# Altium integrated library Cypress USB Controllers.IntLib: 169 symbols (part 8 of 16)
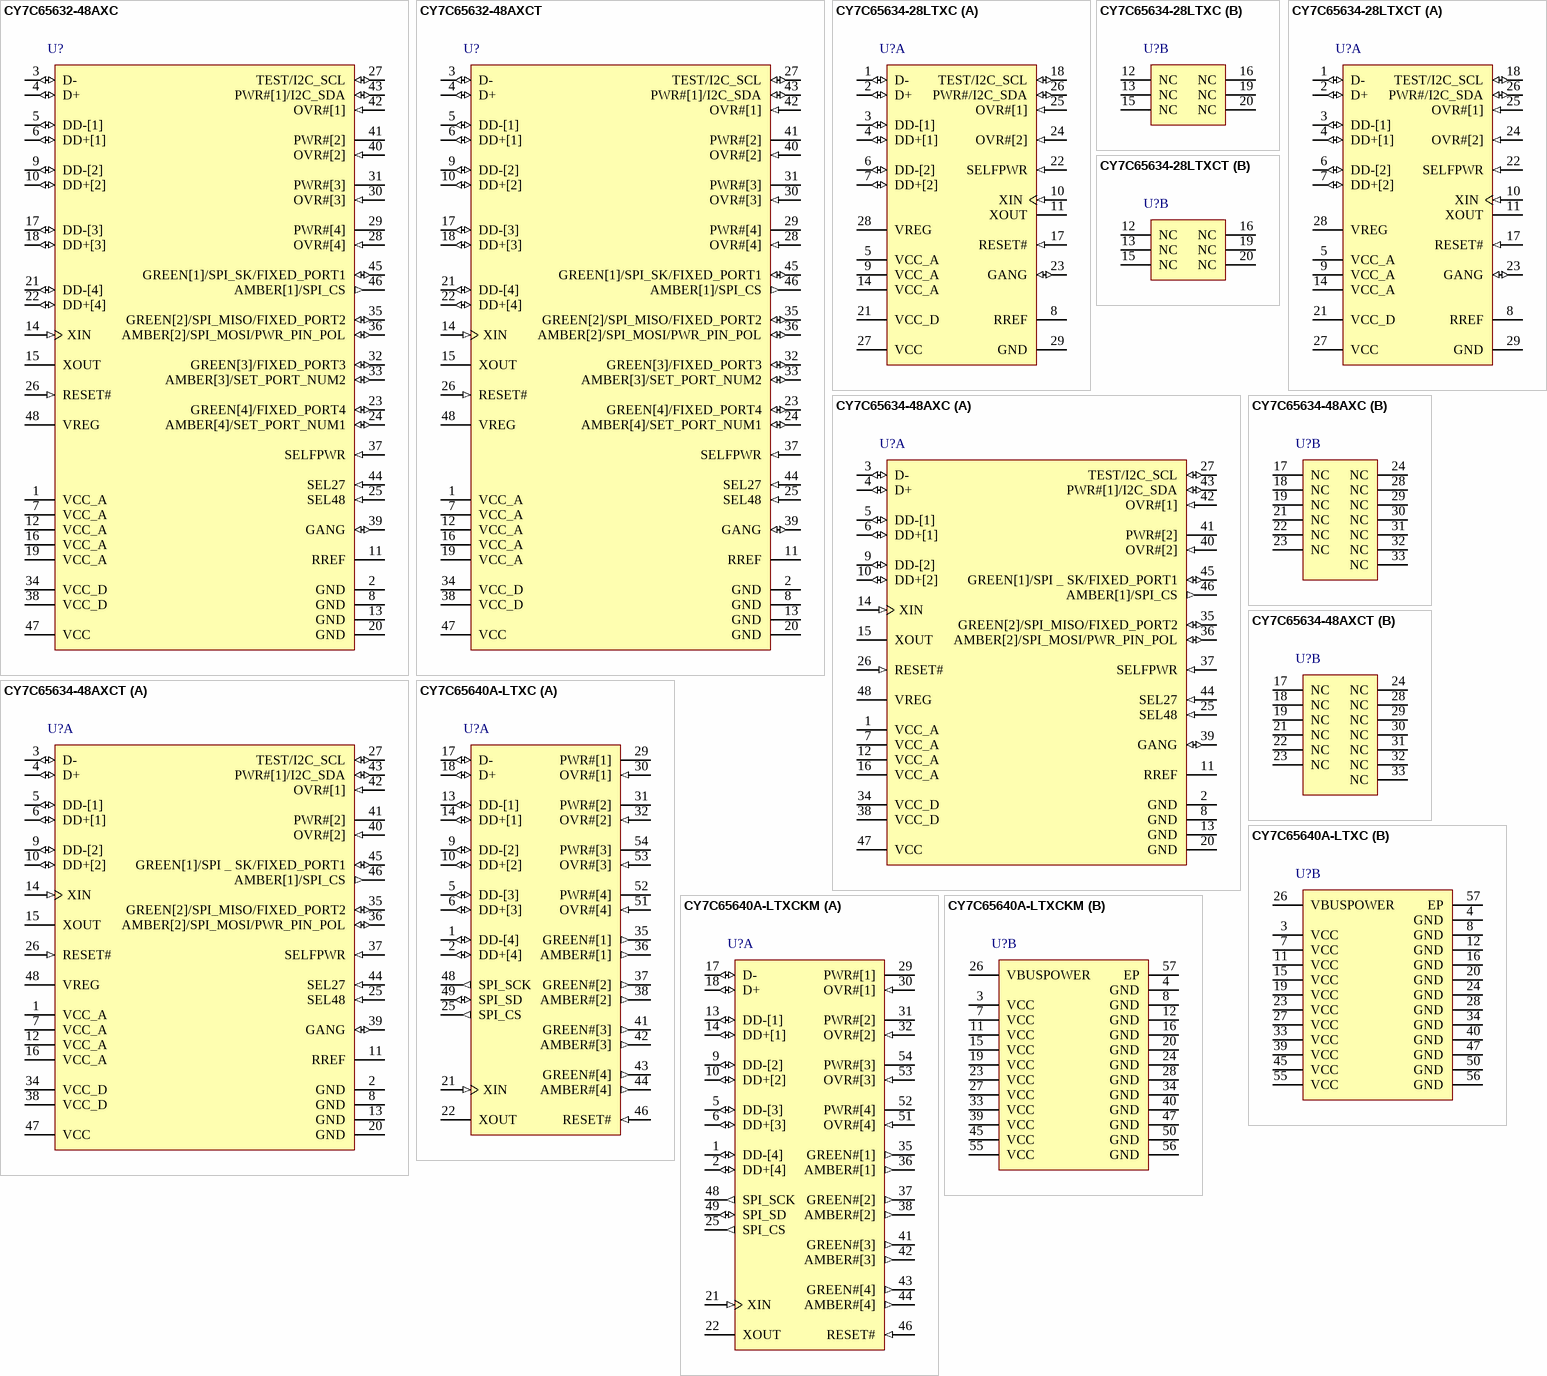
[diagram p29: symbols CY7C65632-48AXC to CY7C65640A-LTXCKM]

## CY7C65634-48AXCT
designator U?
HX2VL(TM) Very Low Power USB 2.0 Hub Controller, 2 Hub Ports, 0 to 70 degC, 48-Pin TQFP (AX48), Tape and Reel; Manufacturer: Cypress; PartNumber: CY7C65634-48AXCT; Max. Operating Voltage (V): 5.25; Min. Operating Voltage (V): 3.15; No. of Hub Ports: 2; Single/Multi TT: Single; DatasheetVersion: Rev. *F; PackageVersion: Rev. **, 12/2000; PackageReference: AX48; PackageDescription: 48-Pin Thin Quad Flat Pack, Body 7 x 7 mm, Pitch 0.5 mm; Supplier 1: Digi-Key; Supplier Part Number 1: 428-3153-2-ND; Supplier 2: Digi-Key; Supplier Part Number 2: 428-3153-1-ND; Supplier 3: Digi-Key; Supplier Part Number 3: 428-3153-6-ND; Supplier 4: Mouser; Supplier Part Number 4: 727-CY7C65634-48AXCT; Max. Operating Temp. (degreesC): 70; Min. Operating Temp. (degreesC): 0; Packing: Tape and Reel; RoHS: Pb-Free; Mounting Technology: Surface Mount; ComponentLink1Description: Manufacturer URL; ComponentLink1URL: http://www.cypress.com/; ComponentLink2Description: Datasheet; ComponentLink2URL: http://www.cypress.com/?docID=39996; ComponentLink3Description: Package Specification; ComponentLink3URL: http://www.cypress.com/?docID=1350
footprint CYP-AX48_N (TQFP, 48-Leads, Body 7x7mm, Pitch 0.5mm, IPC Medium Density)
footprint CYP-AX48_L (TQFP, 48-Leads, Body 7x7mm, Pitch 0.5mm, IPC High Density)
footprint CYP-AX48_M (TQFP, 48-Leads, Body 7x7mm, Pitch 0.5mm, IPC High Density, IPC Low Density)
part A pins: 1 VCC_A (power) "3.3 V analog power to the chip.", 2 GND (power) "Connect to Ground with as short a path as possible.", 3 D- (io) "Upstream D- Signal.", 4 D+ (io) "Upstream D+ Signal.", 5 DD-[1] (io) "Downstream D- Signal. Downstream D- signal of port 1.", 6 DD+[1] (io) "Downstream D+ Signal. Downstream D+ signal of port 1.", 7 VCC_A (power) "3.3 V analog power to the chip.", 8 GND (power) "Connect to Ground with as short a path as possible.", 9 DD-[2] (io) "Downstream D- Signal. Downstream D- signal of port 2.", 10 DD+[2] (io) "Downstream D+ Signal. Downstream D+ signal of port 2.", 11 RREF "649 ohm resistor must be connected between RREF and Ground.", 12 VCC_A (power) "3.3 V analog power to the chip.", 13 GND (power) "Connect to Ground with as short a path as possible.", 14 XIN (in) "12 MHz crystal clock input, or 12/27/48 MHz clock input.", 15 XOUT "12 MHz Crystal OUT", 16 VCC_A (power) "3.3 V analog power to the chip.", 20 GND (power) "Connect to Ground with as short a path as possible.", 25 SEL48 (in) "Clock source selection inputs.", 26 RESET# (in) "Active LOW Reset. External reset input, default pull high 10 kW; When RESET = low, whole chip is reset to the initial state.", 27 TEST/I2C_SCL (io) "Test: 0: Normal Operation & 1: Chip will be put in test mode. I2C_SCL: Can be used as I2C clock pin to access I2C EEPROM.", 34 VCC_D (power) "3.3 V digital power to the chip.", 35 GREEN[2]/SPI_MISO/FIXED_PORT2 (io), 36 AMBER[2]/SPI_MOSI/PWR_PIN_POL (io), 37 SELFPWR (in) "Self Power. Input for selecting self/bus power. 0 is bus powered, 1 is self powered.", 38 VCC_D (power) "3.3 V digital power to the chip.", 39 GANG (io) "GANG. Default is input mode after power-on-reset. Gang Mode: Input:1 -> Output is 0 for Normal Operation and 1 for Suspend Individual Mode: Input:0 -> Output is 1 for Normal Operation and 0 for Suspend Refer to (See Datasheet)", 40 OVR#[2] (in) "Active LOW Overcurrent Condition Detection Input. Overcurrent condition detection input for Port 2.", 41 PWR#[2] (hiz) "Power Switch Driver Output. Default is Active LOW.", 42 OVR#[1] (in) "Active LOW Overcurrent Condition Detection Input. Overcurrent condition detection input for Port 1.", 43 PWR#[1]/I2C_SDA (io), 44 SEL27 (in) "Clock source selection inputs.", 45 GREEN[1]/SPI _ SK/FIXED_PORT1 (io), 46 AMBER[1]/SPI_CS (out), 47 VCC (power) "5 V input to the internal regulator; NC if using external regulator", 48 VREG (power) "5-3.3 V regulator o/p during internal regulation; NC if using external regulator."
part B pins: 17 NC, 18 NC, 19 NC, 21 NC, 22 NC, 23 NC, 24 NC, 28 NC, 29 NC, 30 NC, 31 NC, 32 NC, 33 NC

## CY7C65640A-LTXC
designator U?
TetraHub(TM) High Speed USB Hub Controller, 4 Hub Ports, 3.15 to 3.45 V, 0 to 70 degC, 56-Pin QFN (LTX56), Tray; Manufacturer: Cypress; PartNumber: CY7C65640A-LTXC; Max. Operating Voltage (V): 3.45; Min. Operating Voltage (V): 3.15; No. of Hub Ports: 4; Single/Multi TT: Multi; DatasheetVersion: Rev. *E; PackageVersion: Rev. *F; PackageReference: LTX56; PackageDescription: 56-Pin Sawn QFN, Body 8 x 8 mm, Pitch 0.5 mm; Supplier 1: Digi-Key; Supplier Part Number 1: 428-2931-ND; Supplier 2: Farnell; Supplier Part Number 2: 1772150; Supplier 3: Newark; Supplier Part Number 3: 50R9448; Supplier 4: Newark; Supplier Part Number 4: 50R9447; Supplier 5: Mouser; Supplier Part Number 5: 727-CY7C65640A-LTXC; Max. Operating Temp. (degreesC): 70; Min. Operating Temp. (degreesC): 0; Packing: Tray; RoHS: Pb-Free; Mounting Technology: Surface Mount; Code_JEDEC: MO-220; ComponentLink1Description: Manufacturer URL; ComponentLink1URL: http://www.cypress.com/; ComponentLink2Description: Datasheet; ComponentLink2URL: http://www.cypress.com/?docID=31749; ComponentLink3Description: Package Specification; ComponentLink3URL: http://www.cypress.com/?docID=45022
footprint CYP-LTX56-6100X6100TP_N (QFN, 56-Leads, Body 8.1x8.1mm, Pitch 0.5mm, Thermal Pad 6.1x6.1mm, IPC Medium Density)
footprint CYP-LTX56-6100X6100TP_L (QFN, 56-Leads, Body 8.1x8.1mm, Pitch 0.5mm, Thermal Pad 6.1x6.1mm, IPC High Density)
footprint CYP-LTX56-6100X6100TP_M (QFN, 56-Leads, Body 8.1x8.1mm, Pitch 0.5mm, Thermal Pad 6.1x6.1mm, IPC Low Density)
part A pins: 1 DD-[4] (io) "Downstream D- Signal.", 2 DD+[4] (io) "Downstream D+ Signal.", 5 DD-[3] (io) "Downstream D- Signal.", 6 DD+[3] (io) "Downstream D+ Signal.", 9 DD-[2] (io) "Downstream D- Signal.", 10 DD+[2] (io) "Downstream D+ Signal.", 13 DD-[1] (io) "Downstream D- Signal.", 14 DD+[1] (io) "Downstream D+ Signal.", 17 D- (io) "Upstream D- Signal.", 18 D+ (io) "Upstream D+ Signal.", 21 XIN (in) "24 MHz Crystal IN or external Clock Input.", 22 XOUT "24 MHz Crystal OUT.", 25 SPI_CS (out) "SPI Chip Select. Connect to CS pin of the EEPROM.", 29 PWR#[1] (hiz) "Power Switch Driver Output. Default is active LOW.", 30 OVR#[1] (in) "Overcurrent Condition Detection Input. Default is active LOW.", 31 PWR#[2] (hiz) "Power Switch Driver Output. Default is active LOW.", 32 OVR#[2] (in) "Overcurrent Condition Detection Input. Default is active LOW.", 35 GREEN#[1] (out) "LED. Driver output for amber LED. Port indicator support. Default is active LOW. Polarity is controlled through EEPROM.", 36 AMBER#[1] (out) "LED. Driver output for amber LED. Port indicator support. Default is active LOW.", 37 GREEN#[2] (out) "LED. Driver output for green LED. Port indicator support. Default is active LOW.", 38 AMBER#[2] (out) "LED. Driver output for amber LED. Port indicator support. Default is active LOW.", 41 GREEN#[3] (out) "LED. Driver output for green LED. Port indicator support.", 42 AMBER#[3] (out) "LED. Driver output for amber LED. Port indicator support.", 43 GREEN#[4] (out) "LED. Driver output for green LED. Port indicator support.Default is active LOW.", 44 AMBER#[4] (out) "LED . Driver output for Amber LED. Po rt Indicator Support. Active LOW.", 46 RESET# (in) "Active LOW Reset. This pin resets the entire chip. It is normally tied to VCC through a 100K resistor, and to GND through a 0.1 uF capacitor. Other than this, no other special power up procedure is required.", 48 SPI_SCK (out) "SPI Clock. Connect to EEPROM SCK pin.", 49 SPI_SD (io) "SPI Dataline Connect to GND with 15 kW resistor and to the Data I/O pin of the EEPROM.", 51 OVR#[4] (in) "Overcurrent Condition Detection Input. Default is Active LOW.", 52 PWR#[4] (hiz) "Power Switch Driver Output. Default is active LOW.", 53 OVR#[3] (in) "Overcurrent Condition Detection Input. Default is Active LOW.", 54 PWR#[3] (hiz) "Power Switch Driver Output. Default is active LOW."
part B pins: 3 VCC (power) "VCC. This signal provides power to the chip.", 4 GND (power) "GND. Connect to ground with as short a path as possible.", 7 VCC (power) "VCC. This signal provides power to the chip.", 8 GND (power) "GND. Connect to ground with as short a path as possible.", 11 VCC (power) "VCC. This signal provides power to the chip.", 12 GND (power) "GND. Connect to ground with as short a path as possible.", 15 VCC (power) "VCC. This signal provides power to the chip.", 16 GND (power) "GND. Connect to ground with as short a path as possible.", 19 VCC (power) "VCC. This signal provides power to the chip.", 20 GND (power) "GND. Connect to ground with as short a path as possible.", 23 VCC (power) "VCC. This signal provides power to the chip.", 24 GND (power) "GND. Connect to ground with as short a path as possible.", 26 VBUSPOWER (power) "VBUS. Connect to the VBUS pin of the upstream connector. This signal indicates to the hub that it is in a powered state, and may enable the D+ pull up resistor to indicate a connection. (The hub does so after the external (See Datasheet)", 27 VCC (power) "VCC. This signal provides power to the chip.", 28 GND (power) "GND. Connect to ground with as short a path as possible.", 33 VCC (power) "VCC. This signal provides power to the chip.", 34 GND (power) "GND. Connect to ground with as short a path as possible.", 39 VCC (power) "VCC. This signal provides power to the chip.", 40 GND (power) "GND. Connect to ground with as short a path as possible.", 45 VCC (power) "VCC. This signal provides power to the chip.", 47 GND (power) "GND. Connect to ground with as short a path as possible.", 50 GND (power) "GND. Connect to ground with as short a path as possible.", 55 VCC (power) "VCC. This signal provides power to the chip.", 56 GND (power) "GND. Connect to ground with as short a path as possible.", 57 EP

## CY7C65640A-LTXCKM
designator U?
TetraHub(TM) High Speed USB Hub Controller, 4 Hub Ports, 3.15 to 3.45 V, 0 to 70 degC, 56-Pin QFN (LTX56), Tray; Manufacturer: Cypress; PartNumber: CY7C65640A-LTXCKM; Max. Operating Voltage (V): 3.45; Min. Operating Voltage (V): 3.15; No. of Hub Ports: 4; Single/Multi TT: Multi; DatasheetVersion: Rev. *O; PackageVersion: Rev. *F; PackageReference: LTX56; PackageDescription: 56-Pin Sawn QFN, Body 8 x 8 mm, Pitch 0.5 mm; Max. Operating Temp. (degreesC): 70; Min. Operating Temp. (degreesC): 0; Packing: Tray; RoHS: Pb-Free; Mounting Technology: Surface Mount; Code_JEDEC: MO-220; ComponentLink1Description: Manufacturer URL; ComponentLink1URL: http://www.cypress.com/; ComponentLink2Description: Datasheet; ComponentLink2URL: http://www.cypress.com/?docID=31749; ComponentLink3Description: Package Specification; ComponentLink3URL: http://www.cypress.com/?docID=45022
footprint CYP-LTX56-6100X6100TP_N (QFN, 56-Leads, Body 8.1x8.1mm, Pitch 0.5mm, Thermal Pad 6.1x6.1mm, IPC Medium Density)
footprint CYP-LTX56-6100X6100TP_L (QFN, 56-Leads, Body 8.1x8.1mm, Pitch 0.5mm, Thermal Pad 6.1x6.1mm, IPC High Density)
footprint CYP-LTX56-6100X6100TP_M (QFN, 56-Leads, Body 8.1x8.1mm, Pitch 0.5mm, Thermal Pad 6.1x6.1mm, IPC Low Density)
part A pins: 1 DD-[4] (io) "Downstream D- Signal.", 2 DD+[4] (io) "Downstream D+ Signal.", 5 DD-[3] (io) "Downstream D- Signal.", 6 DD+[3] (io) "Downstream D+ Signal.", 9 DD-[2] (io) "Downstream D- Signal.", 10 DD+[2] (io) "Downstream D+ Signal.", 13 DD-[1] (io) "Downstream D- Signal.", 14 DD+[1] (io) "Downstream D+ Signal.", 17 D- (io) "Upstream D- Signal.", 18 D+ (io) "Upstream D+ Signal.", 21 XIN (in) "24 MHz Crystal IN or external Clock Input.", 22 XOUT "24 MHz Crystal OUT.", 25 SPI_CS (out) "SPI Chip Select. Connect to CS pin of the EEPROM.", 29 PWR#[1] (hiz) "Power Switch Driver Output. Default is active LOW.", 30 OVR#[1] (in) "Overcurrent Condition Detection Input. Default is active LOW.", 31 PWR#[2] (hiz) "Power Switch Driver Output. Default is active LOW.", 32 OVR#[2] (in) "Overcurrent Condition Detection Input. Default is active LOW.", 35 GREEN#[1] (out) "LED. Driver output for amber LED. Port indicator support. Default is active LOW. Polarity is controlled through EEPROM.", 36 AMBER#[1] (out) "LED. Driver output for amber LED. Port indicator support. Default is active LOW.", 37 GREEN#[2] (out) "LED. Driver output for green LED. Port indicator support. Default is active LOW.", 38 AMBER#[2] (out) "LED. Driver output for amber LED. Port indicator support. Default is active LOW.", 41 GREEN#[3] (out) "LED. Driver output for green LED. Port indicator support.", 42 AMBER#[3] (out) "LED. Driver output for amber LED. Port indicator support.", 43 GREEN#[4] (out) "LED. Driver output for green LED. Port indicator support.Default is active LOW.", 44 AMBER#[4] (out) "LED . Driver output for Amber LED. Po rt Indicator Support. Active LOW.", 46 RESET# (in) "Active LOW Reset. This pin resets the entire chip. It is normally tied to VCC through a 100K resistor, and to GND through a 0.1 uF capacitor. Other than this, no other special power up procedure is required.", 48 SPI_SCK (out) "SPI Clock. Connect to EEPROM SCK pin.", 49 SPI_SD (io) "SPI Dataline Connect to GND with 15 kW resistor and to the Data I/O pin of the EEPROM.", 51 OVR#[4] (in) "Overcurrent Condition Detection Input. Default is Active LOW.", 52 PWR#[4] (hiz) "Power Switch Driver Output. Default is active LOW.", 53 OVR#[3] (in) "Overcurrent Condition Detection Input. Default is Active LOW.", 54 PWR#[3] (hiz) "Power Switch Driver Output. Default is active LOW."
part B pins: 3 VCC (power) "VCC. This signal provides power to the chip.", 4 GND (power) "GND. Connect to ground with as short a path as possible.", 7 VCC (power) "VCC. This signal provides power to the chip.", 8 GND (power) "GND. Connect to ground with as short a path as possible.", 11 VCC (power) "VCC. This signal provides power to the chip.", 12 GND (power) "GND. Connect to ground with as short a path as possible.", 15 VCC (power) "VCC. This signal provides power to the chip.", 16 GND (power) "GND. Connect to ground with as short a path as possible.", 19 VCC (power) "VCC. This signal provides power to the chip.", 20 GND (power) "GND. Connect to ground with as short a path as possible.", 23 VCC (power) "VCC. This signal provides power to the chip.", 24 GND (power) "GND. Connect to ground with as short a path as possible.", 26 VBUSPOWER (power) "VBUS. Connect to the VBUS pin of the upstream connector. This signal indicates to the hub that it is in a powered state, and may enable the D+ pull up resistor to indicate a connection. (The hub does so after the external (See Datasheet)", 27 VCC (power) "VCC. This signal provides power to the chip.", 28 GND (power) "GND. Connect to ground with as short a path as possible.", 33 VCC (power) "VCC. This signal provides power to the chip.", 34 GND (power) "GND. Connect to ground with as short a path as possible.", 39 VCC (power) "VCC. This signal provides power to the chip.", 40 GND (power) "GND. Connect to ground with as short a path as possible.", 45 VCC (power) "VCC. This signal provides power to the chip.", 47 GND (power) "GND. Connect to ground with as short a path as possible.", 50 GND (power) "GND. Connect to ground with as short a path as possible.", 55 VCC (power) "VCC. This signal provides power to the chip.", 56 GND (power) "GND. Connect to ground with as short a path as possible.", 57 EP

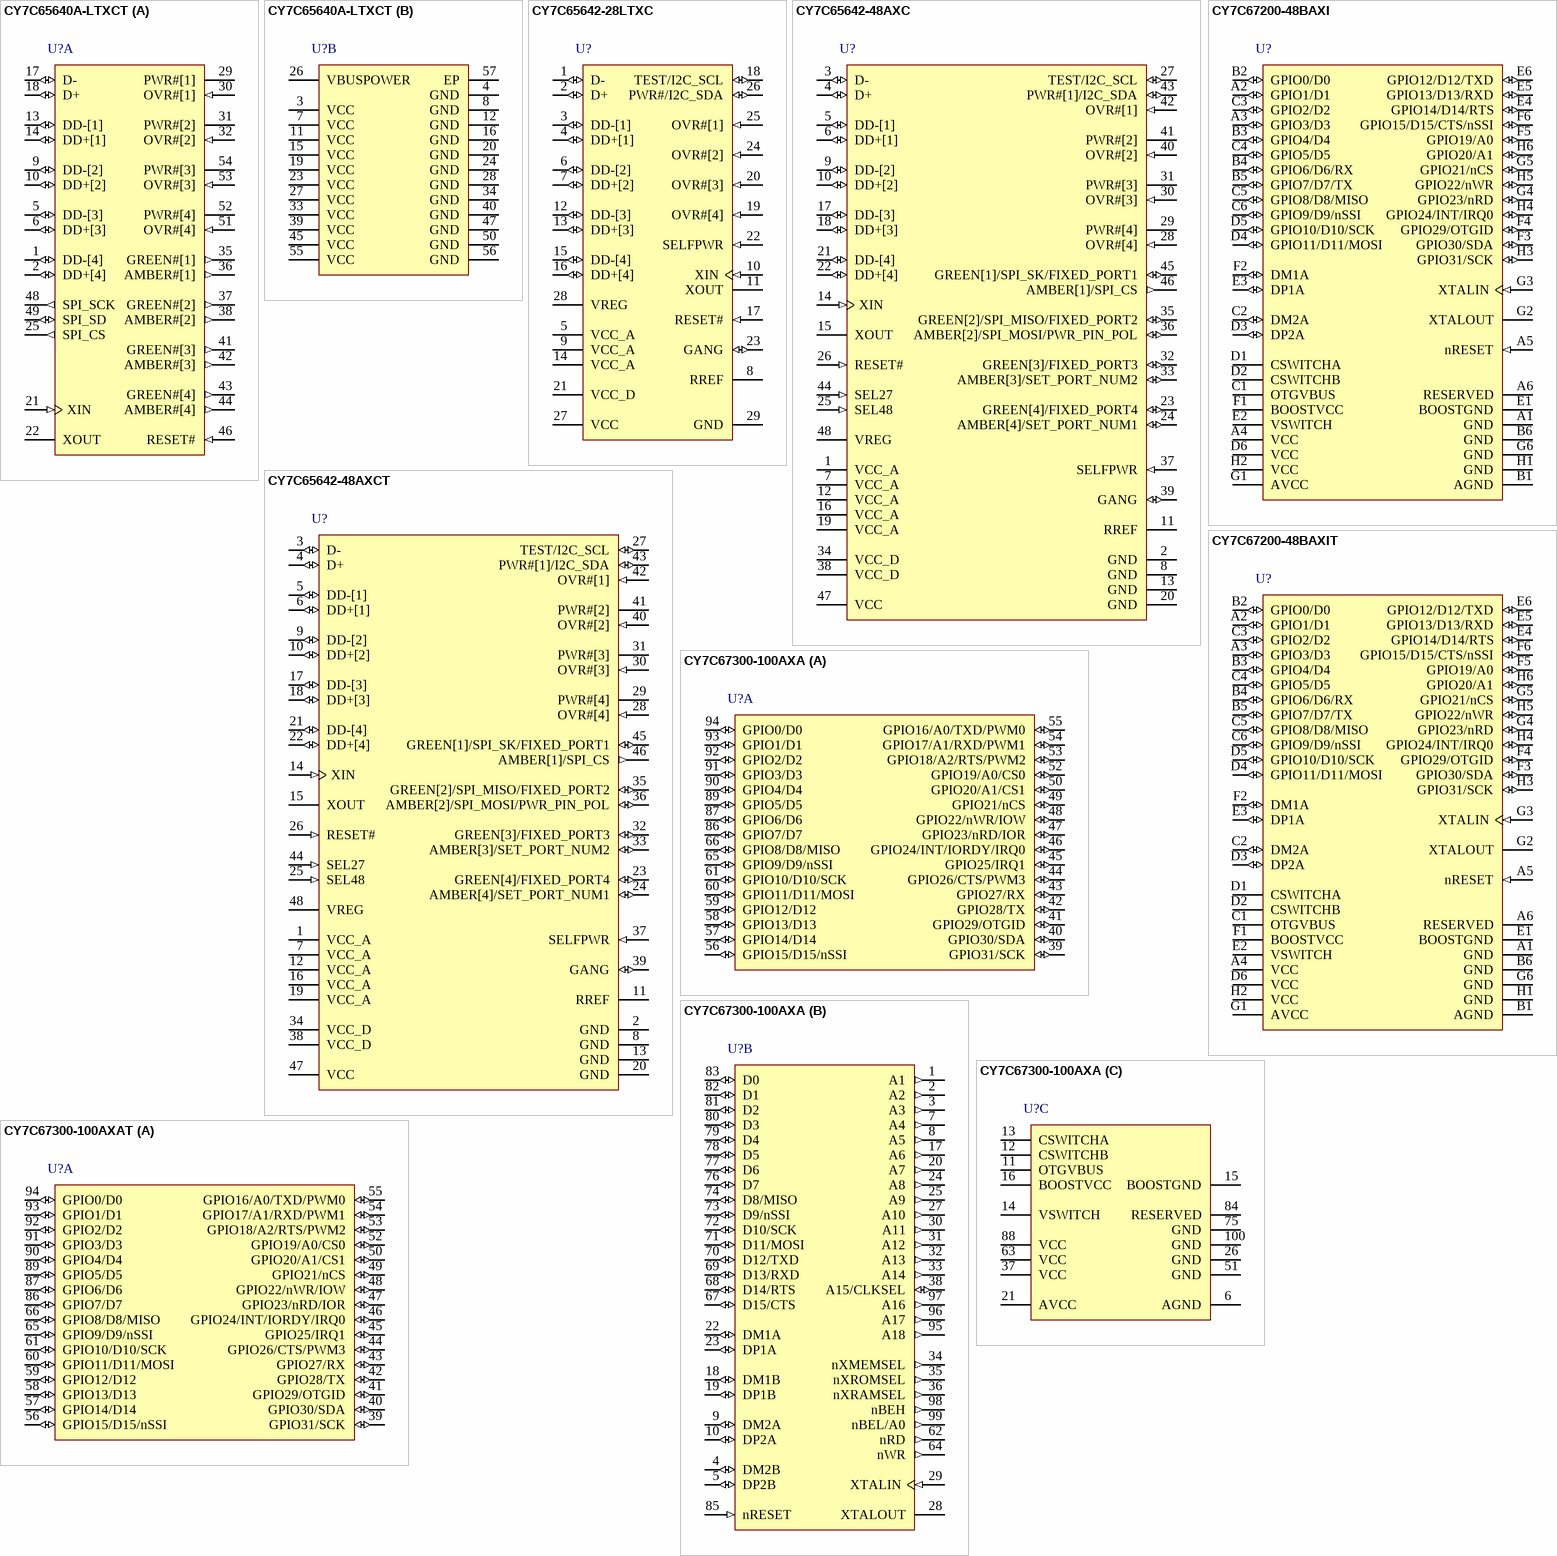
[diagram p7: symbols CY7C65640A-LTXCT to CY7C67300-100AXAT]

## CY7C65640A-LTXCT
designator U?
TetraHub(TM) High Speed USB Hub Controller, 4 Hub Ports, 3.15 to 3.45 V, 0 to 70 degC, 56-Pin QFN (LTX56), Tape and Reel; Manufacturer: Cypress; PartNumber: CY7C65640A-LTXCT; Max. Operating Voltage (V): 3.45; Min. Operating Voltage (V): 3.15; No. of Hub Ports: 4; Single/Multi TT: Multi; DatasheetVersion: Rev. *E; PackageVersion: Rev. *F; PackageReference: LTX56; PackageDescription: 56-Pin Sawn QFN, Body 8 x 8 mm, Pitch 0.5 mm; Supplier 1: Digi-Key; Supplier Part Number 1: CY7C65640A-LTXCT-ND; Supplier 2: Newark; Supplier Part Number 2: 50R9449; Supplier 3: Mouser; Supplier Part Number 3: 727-CY7C65640A-LTXCT; Max. Operating Temp. (degreesC): 70; Min. Operating Temp. (degreesC): 0; Packing: Tape and Reel; RoHS: Pb-Free; Mounting Technology: Surface Mount; Code_JEDEC: MO-220; ComponentLink1Description: Manufacturer URL; ComponentLink1URL: http://www.cypress.com/; ComponentLink2Description: Datasheet; ComponentLink2URL: http://www.cypress.com/?docID=31749; ComponentLink3Description: Package Specification; ComponentLink3URL: http://www.cypress.com/?docID=45022
footprint CYP-LTX56-6100X6100TP_N (QFN, 56-Leads, Body 8.1x8.1mm, Pitch 0.5mm, Thermal Pad 6.1x6.1mm, IPC Medium Density)
footprint CYP-LTX56-6100X6100TP_L (QFN, 56-Leads, Body 8.1x8.1mm, Pitch 0.5mm, Thermal Pad 6.1x6.1mm, IPC High Density)
footprint CYP-LTX56-6100X6100TP_M (QFN, 56-Leads, Body 8.1x8.1mm, Pitch 0.5mm, Thermal Pad 6.1x6.1mm, IPC Low Density)
part A pins: 1 DD-[4] (io) "Downstream D- Signal.", 2 DD+[4] (io) "Downstream D+ Signal.", 5 DD-[3] (io) "Downstream D- Signal.", 6 DD+[3] (io) "Downstream D+ Signal.", 9 DD-[2] (io) "Downstream D- Signal.", 10 DD+[2] (io) "Downstream D+ Signal.", 13 DD-[1] (io) "Downstream D- Signal.", 14 DD+[1] (io) "Downstream D+ Signal.", 17 D- (io) "Upstream D- Signal.", 18 D+ (io) "Upstream D+ Signal.", 21 XIN (in) "24 MHz Crystal IN or external Clock Input.", 22 XOUT "24 MHz Crystal OUT.", 25 SPI_CS (out) "SPI Chip Select. Connect to CS pin of the EEPROM.", 29 PWR#[1] (hiz) "Power Switch Driver Output. Default is active LOW.", 30 OVR#[1] (in) "Overcurrent Condition Detection Input. Default is active LOW.", 31 PWR#[2] (hiz) "Power Switch Driver Output. Default is active LOW.", 32 OVR#[2] (in) "Overcurrent Condition Detection Input. Default is active LOW.", 35 GREEN#[1] (out) "LED. Driver output for amber LED. Port indicator support. Default is active LOW. Polarity is controlled through EEPROM.", 36 AMBER#[1] (out) "LED. Driver output for amber LED. Port indicator support. Default is active LOW.", 37 GREEN#[2] (out) "LED. Driver output for green LED. Port indicator support. Default is active LOW.", 38 AMBER#[2] (out) "LED. Driver output for amber LED. Port indicator support. Default is active LOW.", 41 GREEN#[3] (out) "LED. Driver output for green LED. Port indicator support.", 42 AMBER#[3] (out) "LED. Driver output for amber LED. Port indicator support.", 43 GREEN#[4] (out) "LED. Driver output for green LED. Port indicator support.Default is active LOW.", 44 AMBER#[4] (out) "LED . Driver output for Amber LED. Po rt Indicator Support. Active LOW.", 46 RESET# (in) "Active LOW Reset. This pin resets the entire chip. It is normally tied to VCC through a 100K resistor, and to GND through a 0.1 uF capacitor. Other than this, no other special power up procedure is required.", 48 SPI_SCK (out) "SPI Clock. Connect to EEPROM SCK pin.", 49 SPI_SD (io) "SPI Dataline Connect to GND with 15 kW resistor and to the Data I/O pin of the EEPROM.", 51 OVR#[4] (in) "Overcurrent Condition Detection Input. Default is Active LOW.", 52 PWR#[4] (hiz) "Power Switch Driver Output. Default is active LOW.", 53 OVR#[3] (in) "Overcurrent Condition Detection Input. Default is Active LOW.", 54 PWR#[3] (hiz) "Power Switch Driver Output. Default is active LOW."
part B pins: 3 VCC (power) "VCC. This signal provides power to the chip.", 4 GND (power) "GND. Connect to ground with as short a path as possible.", 7 VCC (power) "VCC. This signal provides power to the chip.", 8 GND (power) "GND. Connect to ground with as short a path as possible.", 11 VCC (power) "VCC. This signal provides power to the chip.", 12 GND (power) "GND. Connect to ground with as short a path as possible.", 15 VCC (power) "VCC. This signal provides power to the chip.", 16 GND (power) "GND. Connect to ground with as short a path as possible.", 19 VCC (power) "VCC. This signal provides power to the chip.", 20 GND (power) "GND. Connect to ground with as short a path as possible.", 23 VCC (power) "VCC. This signal provides power to the chip.", 24 GND (power) "GND. Connect to ground with as short a path as possible.", 26 VBUSPOWER (power) "VBUS. Connect to the VBUS pin of the upstream connector. This signal indicates to the hub that it is in a powered state, and may enable the D+ pull up resistor to indicate a connection. (The hub does so after the external (See Datasheet)", 27 VCC (power) "VCC. This signal provides power to the chip.", 28 GND (power) "GND. Connect to ground with as short a path as possible.", 33 VCC (power) "VCC. This signal provides power to the chip.", 34 GND (power) "GND. Connect to ground with as short a path as possible.", 39 VCC (power) "VCC. This signal provides power to the chip.", 40 GND (power) "GND. Connect to ground with as short a path as possible.", 45 VCC (power) "VCC. This signal provides power to the chip.", 47 GND (power) "GND. Connect to ground with as short a path as possible.", 50 GND (power) "GND. Connect to ground with as short a path as possible.", 55 VCC (power) "VCC. This signal provides power to the chip.", 56 GND (power) "GND. Connect to ground with as short a path as possible.", 57 EP

## CY7C65642-28LTXC
designator U?
HX2VL - Very Low Power USB 2.0 TetraHub(TM) Controller, 4 Hub Ports, 0 to 70 degC, 28-Pin QFN (LTX28), Bulk; Manufacturer: Cypress; PartNumber: CY7C65642-28LTXC; Max. Operating Voltage (V): 5.25; Min. Operating Voltage (V): 3.15; No. of Hub Ports: 4; Single/Multi TT: Multi; DatasheetVersion: Rev. *D; PackageVersion: Rev. **, 10/2010; PackageReference: LTX28; PackageDescription: 28-Pin Quad Flat No-Lead Package, Body 5 x 5 mm, Pitch 0.5 mm; Supplier 1: Digi-Key; Supplier Part Number 1: 428-3149-ND; Supplier 2: Farnell; Supplier Part Number 2: 2355895; Supplier 3: Newark; Supplier Part Number 3: 89T5385; Supplier 4: Mouser; Supplier Part Number 4: 727-CY7C65642-28LTXC; Max. Operating Temp. (degreesC): 70; Min. Operating Temp. (degreesC): 0; Packing: Bulk; RoHS: Pb-Free; Mounting Technology: Surface Mount; Code_JEDEC: MO-220; ComponentLink1Description: Manufacturer URL; ComponentLink1URL: http://www.cypress.com/; ComponentLink2Description: Datasheet; ComponentLink2URL: http://www.cypress.com/?docID=39272; ComponentLink3Description: Package Specification; ComponentLink3URL: http://www.cypress.com/?docID=33735
footprint CYP-LTX28_N (QFN, 28-Leads, Body 5.1x5.1mm, Pitch 0.6mm, Thermal Pad 3.6X3.6mm, IPC Medium Density)
footprint CYP-LTX28_L (QFN, 28-Leads, Body 5.1x5.1mm, Pitch 0.6mm, Thermal Pad 3.6X3.6mm, IPC High Density)
footprint CYP-LTX28_M (QFN, 28-Leads, Body 5.1x5.1mm, Pitch 0.6mm, Thermal Pad 3.6X3.6mm, IPC Low Density)
pins: 1 D- (io) "Upstream D- Signal.", 2 D+ (io) "Upstream D+ Signal.", 3 DD-[1] (io) "Downstream D- Signal.", 4 DD+[1] (io) "Downstream D+ Signal.", 5 VCC_A (power) "3.3 V analog power to the chip.", 6 DD-[2] (io) "Downstream D- Signal.", 7 DD+[2] (io) "Downstream D+ Signal.", 8 RREF "649ohm resistor must be connected between RREF and Ground", 9 VCC_A (power) "3.3 V analog power to the chip.", 10 XIN (in) "12-MHz crystal clock input, or 12-MHz clock input", 11 XOUT "12-MHz Crystal OUT. (NC if external clock is used).", 12 DD-[3] (io) "Downstream D- Signal.", 13 DD+[3] (io) "Downstream D+ Signal.", 14 VCC_A (power) "3.3 V analog power to the chip.", 15 DD-[4] (io) "Downstream D- Signal.", 16 DD+[4] (io) "Downstream D+ Signal.", 17 RESET# (in) "Active LOW Reset. External reset input, default pull high 10k Ohm; When RESET = low, whole chip is reset to the initial state", 18 TEST/I2C_SCL (io), 19 OVR#[4] (in) "Overcurrent Condition Detection Input. Active LOW Overcurrent Condition Detection Input.", 20 OVR#[3] (in) "Overcurrent Condition Detection Input. Active LOW Overcurrent Condition Detection Input.", 21 VCC_D (power) "3.3 V digital power to the chip.", 22 SELFPWR (in) "Self Power. Input for selecting self/bus power. 0 is bus powered, 1 is self powered.", 23 GANG (io) "GANG Default is input mode after power-on-reset. Gang Mode: Input:1 -> Output is 0 for normal operation and 1 for suspend Individual Mode: Input:0 -> Output is 1 for normal operation and 0 for suspend Refer to gang / (See Datasheet)", 24 OVR#[2] (in) "Overcurrent Condition Detection Input. Active LOW Overcurrent Condition Detection Input.", 25 OVR#[1] (in) "Overcurrent Condition Detection Input. Active LOW Overcurrent Condition Detection Input.", 26 PWR#/I2C_SDA (io), 27 VCC (power) "5 V input to the internal regulator; NC if using external regulator", 28 VREG (power) "5-3.3 V regulator o/p during internal regulation; 3.3 V i/p if using external regulator.", 29 GND (power) "Ground pin for the chip. It is the solderable exposed pad beneath the chip. Refer to the Figure 4 on page 19."

## CY7C65642-48AXC
designator U?
HX2VL - Very Low Power USB 2.0 TetraHub(TM) Controller, 4 Hub Ports, 0 to 70 degC, 48-Pin TQFP (AX48), Bulk; Manufacturer: Cypress; PartNumber: CY7C65642-48AXC; Max. Operating Voltage (V): 5.25; Min. Operating Voltage (V): 3.15; No. of Hub Ports: 4; Single/Multi TT: Multi; DatasheetVersion: Rev. *D; PackageVersion: Rev. **, 12/2000; PackageReference: AX48; PackageDescription: 48-Pin Thin Quad Flat Pack, Body 7 x 7 mm, Pitch 0.5 mm; Supplier 1: Digi-Key; Supplier Part Number 1: CY7C65642-48AXC-ND; Supplier 2: Farnell; Supplier Part Number 2: 2355889; Supplier 3: Newark; Supplier Part Number 3: 66T6137; Supplier 4: Mouser; Supplier Part Number 4: 727-CY7C65642-48AXC; Max. Operating Temp. (degreesC): 70; Min. Operating Temp. (degreesC): 0; Packing: Bulk; RoHS: Pb-Free; Mounting Technology: Surface Mount; ComponentLink1Description: Manufacturer URL; ComponentLink1URL: http://www.cypress.com/; ComponentLink2Description: Datasheet; ComponentLink2URL: http://www.cypress.com/?docID=39272; ComponentLink3Description: Package Specification; ComponentLink3URL: http://www.cypress.com/?docID=1350
footprint CYP-AX48_N (TQFP, 48-Leads, Body 7x7mm, Pitch 0.5mm, IPC Medium Density)
footprint CYP-AX48_L (TQFP, 48-Leads, Body 7x7mm, Pitch 0.5mm, IPC High Density)
footprint CYP-AX48_M (TQFP, 48-Leads, Body 7x7mm, Pitch 0.5mm, IPC High Density, IPC Low Density)
pins: 1 VCC_A (power) "3.3 V analog power to the chip.", 2 GND (power) "Connect to Ground with as short a path as possible.", 3 D- (io) "Upstream D- Signal.", 4 D+ (io) "Upstream D+ Signal.", 5 DD-[1] (io) "Downstream D- Signal. Downstream D- signal of port 1.", 6 DD+[1] (io) "Downstream D+ Signal. Downstream D+ signal of port 1.", 7 VCC_A (power) "3.3 V analog power to the chip.", 8 GND (power) "Connect to Ground with as short a path as possible.", 9 DD-[2] (io) "Downstream D- Signal. Downstream D- signal of port 2.", 10 DD+[2] (io) "Downstream D+ Signal. Downstream D+ signal of port 2.", 11 RREF "649 ohm resistor must be connected between RREF and Ground.", 12 VCC_A (power) "3.3 V analog power to the chip.", 13 GND (power) "Connect to Ground with as short a path as possible.", 14 XIN (in) "12 MHz crystal clock input, or 12/27/48 MHz clock input.", 15 XOUT "12 MHz Crystal OUT", 16 VCC_A (power) "3.3 V analog power to the chip.", 17 DD-[3] (io) "Downstream D- Signal. Downstream D- signal of port 3.", 18 DD+[3] (io) "Downstream D+ Signal. Downstream D+ signal of port 3.", 19 VCC_A (power) "3.3 V analog power to the chip. NC in CY7C65634.", 20 GND (power) "Connect to Ground with as short a path as possible.", 21 DD-[4] (io) "Downstream D- Signal. Downstream D- signal of port 4.", 22 DD+[4] (io) "Downstream D+ Signal. Downstream D+ signal of port 4.", 23 GREEN[4]/FIXED_PORT4 (io), 24 AMBER[4]/SET_PORT_NUM1 (io), 25 SEL48 (in) "Clock source selection inputs.", 26 RESET# (in) "Active LOW Reset. External reset input, default pull high 10 kW; When RESET = low, whole chip is reset to the initial state.", 27 TEST/I2C_SCL (io) "Test: 0: Normal Operation & 1: Chip will be put in test mode. I2C_SCL: Can be used as I2C clock pin to access I2C EEPROM.", 28 OVR#[4] (in) "Active LOW Overcurrent Condition Detection Input. Overcurrent condition detection input for Port 4. NC in CY7C65634.", 29 PWR#[4] (hiz) "Power Switch Driver Output. Default is Active LOW. NC in CY7C65634.", 30 OVR#[3] (in) "Active LOW Overcurrent Condition Detection Input. Overcurrent condition detection input for Port 3. NC in CY7C65634.", 31 PWR#[3] (hiz) "Power Switch Driver Output. Default is Active LOW. NC in CY7C65634.", 32 GREEN[3]/FIXED_PORT3 (io), 33 AMBER[3]/SET_PORT_NUM2 (io), 34 VCC_D (power) "3.3 V digital power to the chip.", 35 GREEN[2]/SPI_MISO/FIXED_PORT2 (io), 36 AMBER[2]/SPI_MOSI/PWR_PIN_POL (io), 37 SELFPWR (in) "Self Power. Input for selecting self/bus power. 0 is bus powered, 1 is self powered.", 38 VCC_D (power) "3.3 V digital power to the chip.", 39 GANG (io) "GANG. Default is input mode after power-on-reset. Gang Mode: Input:1 -> Output is 0 for Normal Operation and 1 for Suspend Individual Mode: Input:0 -> Output is 1 for Normal Operation and 0 for Suspend Refer to (See Datasheet)", 40 OVR#[2] (in) "Active LOW Overcurrent Condition Detection Input. Overcurrent condition detection input for Port 2.", 41 PWR#[2] (hiz) "Power Switch Driver Output. Default is Active LOW.", 42 OVR#[1] (in) "Active LOW Overcurrent Condition Detection Input. Overcurrent condition detection input for Port 1.", 43 PWR#[1]/I2C_SDA (io), 44 SEL27 (in) "Clock source selection inputs.", 45 GREEN[1]/SPI_SK/FIXED_PORT1 (io), 46 AMBER[1]/SPI_CS (out), 47 VCC (power) "5 V input to the internal regulator; NC if using external regulator", 48 VREG (power) "5-3.3 V regulator o/p during internal regulation; NC if using external regulator."

## CY7C65642-48AXCT
designator U?
HX2VL - Very Low Power USB 2.0 TetraHub(TM) Controller, 4 Hub Ports, 0 to 70 degC, 48-Pin TQFP (AX48), Tape and Reel; Manufacturer: Cypress; PartNumber: CY7C65642-48AXCT; Max. Operating Voltage (V): 5.25; Min. Operating Voltage (V): 3.15; No. of Hub Ports: 4; Single/Multi TT: Multi; DatasheetVersion: Rev. *D; PackageVersion: Rev. **, 12/2000; PackageReference: AX48; PackageDescription: 48-Pin Thin Quad Flat Pack, Body 7 x 7 mm, Pitch 0.5 mm; Supplier 1: Digi-Key; Supplier Part Number 1: 428-3152-2-ND; Supplier 2: Digi-Key; Supplier Part Number 2: 428-3152-1-ND; Supplier 3: Digi-Key; Supplier Part Number 3: 428-3152-6-ND; Supplier 4: Newark; Supplier Part Number 4: 66T6138; Supplier 5: Mouser; Supplier Part Number 5: 727-CY7C65642-48AXCT; Max. Operating Temp. (degreesC): 70; Min. Operating Temp. (degreesC): 0; Packing: Tape and Reel; RoHS: Pb-Free; Mounting Technology: Surface Mount; ComponentLink1Description: Manufacturer URL; ComponentLink1URL: http://www.cypress.com/; ComponentLink2Description: Datasheet; ComponentLink2URL: http://www.cypress.com/?docID=39272; ComponentLink3Description: Package Specification; ComponentLink3URL: http://www.cypress.com/?docID=1350
footprint CYP-AX48_N (TQFP, 48-Leads, Body 7x7mm, Pitch 0.5mm, IPC Medium Density)
footprint CYP-AX48_L (TQFP, 48-Leads, Body 7x7mm, Pitch 0.5mm, IPC High Density)
footprint CYP-AX48_M (TQFP, 48-Leads, Body 7x7mm, Pitch 0.5mm, IPC High Density, IPC Low Density)
pins: 1 VCC_A (power) "3.3 V analog power to the chip.", 2 GND (power) "Connect to Ground with as short a path as possible.", 3 D- (io) "Upstream D- Signal.", 4 D+ (io) "Upstream D+ Signal.", 5 DD-[1] (io) "Downstream D- Signal. Downstream D- signal of port 1.", 6 DD+[1] (io) "Downstream D+ Signal. Downstream D+ signal of port 1.", 7 VCC_A (power) "3.3 V analog power to the chip.", 8 GND (power) "Connect to Ground with as short a path as possible.", 9 DD-[2] (io) "Downstream D- Signal. Downstream D- signal of port 2.", 10 DD+[2] (io) "Downstream D+ Signal. Downstream D+ signal of port 2.", 11 RREF "649 ohm resistor must be connected between RREF and Ground.", 12 VCC_A (power) "3.3 V analog power to the chip.", 13 GND (power) "Connect to Ground with as short a path as possible.", 14 XIN (in) "12 MHz crystal clock input, or 12/27/48 MHz clock input.", 15 XOUT "12 MHz Crystal OUT", 16 VCC_A (power) "3.3 V analog power to the chip.", 17 DD-[3] (io) "Downstream D- Signal. Downstream D- signal of port 3.", 18 DD+[3] (io) "Downstream D+ Signal. Downstream D+ signal of port 3.", 19 VCC_A (power) "3.3 V analog power to the chip. NC in CY7C65634.", 20 GND (power) "Connect to Ground with as short a path as possible.", 21 DD-[4] (io) "Downstream D- Signal. Downstream D- signal of port 4.", 22 DD+[4] (io) "Downstream D+ Signal. Downstream D+ signal of port 4.", 23 GREEN[4]/FIXED_PORT4 (io), 24 AMBER[4]/SET_PORT_NUM1 (io), 25 SEL48 (in) "Clock source selection inputs.", 26 RESET# (in) "Active LOW Reset. External reset input, default pull high 10 kW; When RESET = low, whole chip is reset to the initial state.", 27 TEST/I2C_SCL (io) "Test: 0: Normal Operation & 1: Chip will be put in test mode. I2C_SCL: Can be used as I2C clock pin to access I2C EEPROM.", 28 OVR#[4] (in) "Active LOW Overcurrent Condition Detection Input. Overcurrent condition detection input for Port 4. NC in CY7C65634.", 29 PWR#[4] (hiz) "Power Switch Driver Output. Default is Active LOW. NC in CY7C65634.", 30 OVR#[3] (in) "Active LOW Overcurrent Condition Detection Input. Overcurrent condition detection input for Port 3. NC in CY7C65634.", 31 PWR#[3] (hiz) "Power Switch Driver Output. Default is Active LOW. NC in CY7C65634.", 32 GREEN[3]/FIXED_PORT3 (io), 33 AMBER[3]/SET_PORT_NUM2 (io), 34 VCC_D (power) "3.3 V digital power to the chip.", 35 GREEN[2]/SPI_MISO/FIXED_PORT2 (io), 36 AMBER[2]/SPI_MOSI/PWR_PIN_POL (io), 37 SELFPWR (in) "Self Power. Input for selecting self/bus power. 0 is bus powered, 1 is self powered.", 38 VCC_D (power) "3.3 V digital power to the chip.", 39 GANG (io) "GANG. Default is input mode after power-on-reset. Gang Mode: Input:1 -> Output is 0 for Normal Operation and 1 for Suspend Individual Mode: Input:0 -> Output is 1 for Normal Operation and 0 for Suspend Refer to (See Datasheet)", 40 OVR#[2] (in) "Active LOW Overcurrent Condition Detection Input. Overcurrent condition detection input for Port 2.", 41 PWR#[2] (hiz) "Power Switch Driver Output. Default is Active LOW.", 42 OVR#[1] (in) "Active LOW Overcurrent Condition Detection Input. Overcurrent condition detection input for Port 1.", 43 PWR#[1]/I2C_SDA (io), 44 SEL27 (in) "Clock source selection inputs.", 45 GREEN[1]/SPI_SK/FIXED_PORT1 (io), 46 AMBER[1]/SPI_CS (out), 47 VCC (power) "5 V input to the internal regulator; NC if using external regulator", 48 VREG (power) "5-3.3 V regulator o/p during internal regulation; NC if using external regulator."

## CY7C67200-48BAXI
designator U?
EZ-OTG(TM) Programmable USB On-The-Go Host / Peripheral Controller, 16 KB, 25 I/Os, 2.7 to 3.6 V, -40 to 85 degC, 48-Pin FBGA (BAX48), Tray; Manufacturer: Cypress; PartNumber: CY7C67200-48BAXI; Max. Operating Voltage (V): 3.6; Memory Architecture: ROM/RAM; Memory Size (KB): 16; Min. Operating Voltage (V): 2.7; No. of I/Os: 25; DatasheetVersion: Rev. *J; PackageVersion: Rev. *F, 09/2005; PackageReference: BAX48; PackageDescription: 48-Ball Fine-Pitch Ball Grid Array, Body 7 x 7 mm, Pitch 0.75 mm; Supplier 1: Digi-Key; Supplier Part Number 1: 428-2262-ND; Supplier 2: Farnell; Supplier Part Number 2: 1269127; Supplier 3: Newark; Supplier Part Number 3: 19M7092; Supplier 4: Mouser; Supplier Part Number 4: 727-CYC6720048BAXI; Max. Operating Temp. (degreesC): 85; Min. Operating Temp. (degreesC): -40; Packing: Tray; RoHS: Pb-Free; Mounting Technology: Surface Mount; ComponentLink1Description: Manufacturer URL; ComponentLink1URL: http://www.cypress.com/; ComponentLink2Description: Datasheet; ComponentLink2URL: http://www.cypress.com/?docID=45275; ComponentLink3Description: Package Specification; ComponentLink3URL: http://www.cypress.com/?docID=1012
footprint CYP-BAX48 (BGA, 48-Balls, Body 7x7mm, Pitch 0.75mm)
pins: A1 GND (power) "Main Ground", A2 GPIO1/D1 (io), A3 GPIO3/D3 (io), A4 VCC (power) "Main VCC", A5 nRESET (in) "Reset", A6 RESERVED (power) "Tie to Gnd for normal operation.", B1 AGND (power) "USB Ground", B2 GPIO0/D0 (io), B3 GPIO4/D4 (io), B4 GPIO6/D6/RX (io), B5 GPIO7/D7/TX (io), B6 GND (power) "Main Ground", C1 OTGVBUS (power) "USB OTG Vbus", C2 DM2A (io) "USB Port 2A D-", C3 GPIO2/D2 (io), C4 GPIO5/D5 (io), C5 GPIO8/D8/MISO (io), C6 GPIO9/D9/nSSI (io), D1 CSWITCHA (power) "Charge Pump Capacitor", D2 CSWITCHB (power) "Charge Pump Capacitor", D3 DP2A (io) "USB Port 2A D+", D4 GPIO11/D11/MOSI (io), D5 GPIO10/D10/SCK (io), D6 VCC (power) "Main VCC", E1 BOOSTGND (power) "Booster Ground", E2 VSWITCH (power) "Booster Switching Output", E3 DP1A (io) "USB Port 1A D+", E4 GPIO14/D14/RTS (io), E5 GPIO13/D13/RXD (io), E6 GPIO12/D12/TXD (io), F1 BOOSTVCC (power) "Booster Power Input: 2.7 V to 3.6 V", F2 DM1A (io) "USB Port 1A D-", F3 GPIO30/SDA (io), F4 GPIO29/OTGID (io), F5 GPIO19/A0 (io), F6 GPIO15/D15/CTS/nSSI (io), G1 AVCC (power) "USB Power", G2 XTALOUT "Crystal output. Leave floating if direct clock source is used.", G3 XTALIN (in) "Crystal Input or Direct Clock Input", G4 GPIO23/nRD (io), G5 GPIO21/nCS (io), G6 GND (power) "Main Ground", H1 GND (power) "Main Ground", H2 VCC (power) "Main VCC", H3 GPIO31/SCK (io), H4 GPIO24/INT/IRQ0 (io), H5 GPIO22/nWR (io), H6 GPIO20/A1 (io)

## CY7C67200-48BAXIT
designator U?
EZ-OTG(TM) Programmable USB On-The-Go Host / Peripheral Controller, 16 KB, 25 I/Os, 2.7 to 3.6 V, -40 to 85 degC, 48-Pin FBGA (BAX48), Tape and Reel; Manufacturer: Cypress; PartNumber: CY7C67200-48BAXIT; CPU Core: CY16; Max. Operating Voltage (V): 3.6; Memory Architecture: ROM/RAM; Memory Size (KB): 16; Min. Operating Voltage (V): 2.7; No. of I/Os: 25; DatasheetVersion: Rev. *J; PackageVersion: Rev. *F, 09/2005; PackageReference: BAX48; PackageDescription: 48-Ball Fine-Pitch Ball Grid Array, Body 7 x 7 mm, Pitch 0.75 mm; Supplier 1: Digi-Key; Supplier Part Number 1: CY7C67200-48BAXIT-ND; Supplier 2: Mouser; Supplier Part Number 2: 727-CY7C6720048BAXIT; Max. Operating Temp. (degreesC): 85; Min. Operating Temp. (degreesC): -40; Packing: Tape and Reel; RoHS: Pb-Free; Mounting Technology: Surface Mount; ComponentLink1Description: Manufacturer URL; ComponentLink1URL: http://www.cypress.com/; ComponentLink2Description: Datasheet; ComponentLink2URL: http://www.cypress.com/?docID=45275; ComponentLink3Description: Package Specification; ComponentLink3URL: http://www.cypress.com/?docID=1012
footprint CYP-BAX48 (BGA, 48-Balls, Body 7x7mm, Pitch 0.75mm)
pins: A1 GND (power) "Main Ground", A2 GPIO1/D1 (io), A3 GPIO3/D3 (io), A4 VCC (power) "Main VCC", A5 nRESET (in) "Reset", A6 RESERVED (power) "Tie to Gnd for normal operation.", B1 AGND (power) "USB Ground", B2 GPIO0/D0 (io), B3 GPIO4/D4 (io), B4 GPIO6/D6/RX (io), B5 GPIO7/D7/TX (io), B6 GND (power) "Main Ground", C1 OTGVBUS (power) "USB OTG Vbus", C2 DM2A (io) "USB Port 2A D-", C3 GPIO2/D2 (io), C4 GPIO5/D5 (io), C5 GPIO8/D8/MISO (io), C6 GPIO9/D9/nSSI (io), D1 CSWITCHA (power) "Charge Pump Capacitor", D2 CSWITCHB (power) "Charge Pump Capacitor", D3 DP2A (io) "USB Port 2A D+", D4 GPIO11/D11/MOSI (io), D5 GPIO10/D10/SCK (io), D6 VCC (power) "Main VCC", E1 BOOSTGND (power) "Booster Ground", E2 VSWITCH (power) "Booster Switching Output", E3 DP1A (io) "USB Port 1A D+", E4 GPIO14/D14/RTS (io), E5 GPIO13/D13/RXD (io), E6 GPIO12/D12/TXD (io), F1 BOOSTVCC (power) "Booster Power Input: 2.7 V to 3.6 V", F2 DM1A (io) "USB Port 1A D-", F3 GPIO30/SDA (io), F4 GPIO29/OTGID (io), F5 GPIO19/A0 (io), F6 GPIO15/D15/CTS/nSSI (io), G1 AVCC (power) "USB Power", G2 XTALOUT "Crystal output. Leave floating if direct clock source is used.", G3 XTALIN (in) "Crystal Input or Direct Clock Input", G4 GPIO23/nRD (io), G5 GPIO21/nCS (io), G6 GND (power) "Main Ground", H1 GND (power) "Main Ground", H2 VCC (power) "Main VCC", H3 GPIO31/SCK (io), H4 GPIO24/INT/IRQ0 (io), H5 GPIO22/nWR (io), H6 GPIO20/A1 (io)

## CY7C67300-100AXA
designator U?
EZ-Host(TM) Programmable Embedded USB Host and Peripheral Controller with Automotive AEC Grade Support, 16 KB, 32 I/Os, 2.7 to 3.6 V, -40 to 85 degC, 100-Pin TQFP (AX100), Tray; Manufacturer: Cypress; PartNumber: CY7C67300-100AXA; CPU Core: CY16; Max. Operating Voltage (V): 3.6; Memory Architecture: ROM/RAM; Memory Size (KB): 16; Min. Operating Voltage (V): 2.7; No. of I/Os: 32; DatasheetVersion: Rev. *M; PackageVersion: Rev. *D, 12/2009; PackageReference: AX100; PackageDescription: 100-Pin Thin Plastic Quad Flat pack, Body 14 x14 mm, Pitch 0.5 mm; Supplier 1: Digi-Key; Supplier Part Number 1: CY7C67300-100AXA-ND; Supplier 2: Mouser; Supplier Part Number 2: 727-CY7C67300-100AXA; Max. Operating Temp. (degreesC): 85; Min. Operating Temp. (degreesC): -40; Packing: Tray; RoHS: Pb-Free; Mounting Technology: Surface Mount; Code_JEDEC: MS-026; ComponentLink1Description: Manufacturer URL; ComponentLink1URL: http://www.cypress.com/; ComponentLink2Description: Datasheet; ComponentLink2URL: http://www.cypress.com/?docID=45285; ComponentLink3Description: Package Specification; ComponentLink3URL: http://www.cypress.com/?docID=45180
footprint CYP-AX100_N (QFN, 100-Leads, Body 14x14mm, Pitch 0.5mm, IPC Medium Density)
footprint CYP-AX100_L (QFN, 100-Leads, Body 14x14mm, Pitch 0.5mm, IPC High Density)
footprint CYP-AX100_M (QFN, 100-Leads, Body 14x14mm, Pitch 0.5mm, IPC Low Density)
part A pins: 39 GPIO31/SCK (io), 40 GPIO30/SDA (io), 41 GPIO29/OTGID (io), 42 GPIO28/TX (io), 43 GPIO27/RX (io), 44 GPIO26/CTS/PWM3 (io), 45 GPIO25/IRQ1 (io), 46 GPIO24/INT/IORDY/IRQ0 (io), 47 GPIO23/nRD/IOR (io), 48 GPIO22/nWR/IOW (io), 49 GPIO21/nCS (io), 50 GPIO20/A1/CS1 (io), 52 GPIO19/A0/CS0 (io), 53 GPIO18/A2/RTS/PWM2 (io), 54 GPIO17/A1/RXD/PWM1 (io), 55 GPIO16/A0/TXD/PWM0 (io), 56 GPIO15/D15/nSSI (io), 57 GPIO14/D14 (io), 58 GPIO13/D13 (io), 59 GPIO12/D12 (io), 60 GPIO11/D11/MOSI (io), 61 GPIO10/D10/SCK (io), 65 GPIO9/D9/nSSI (io), 66 GPIO8/D8/MISO (io), 86 GPIO7/D7 (io), 87 GPIO6/D6 (io), 89 GPIO5/D5 (io), 90 GPIO4/D4 (io), 91 GPIO3/D3 (io), 92 GPIO2/D2 (io), 93 GPIO1/D1 (io), 94 GPIO0/D0 (io)
part B pins: 1 A1 (out) "External Memory Address Bus", 2 A2 (out) "External Memory Address Bus", 3 A3 (out) "External Memory Address Bus", 4 DM2B (io) "USB Port 2B D-", 5 DP2B (io) "USB Port 2B D+", 7 A4 (out) "External Memory Address Bus", 8 A5 (out) "External Memory Address Bus", 9 DM2A (io) "USB Port 2A D-", 10 DP2A (io) "USB Port 2A D+", 17 A6 (out) "External Memory Address Bus", 18 DM1B (io) "USB Port 1B D-", 19 DP1B (io) "USB Port 1B D+", 20 A7 (out) "External Memory Address Bus", 22 DM1A (io) "USB Port 1A D-", 23 DP1A (io) "USB Port 1A D+", 24 A8 (out) "External Memory Address Bus", 25 A9 (out) "External Memory Address Bus", 27 A10 (out) "External Memory Address Bus", 28 XTALOUT "Crystal output. Leave floating if direct clock source is used.", 29 XTALIN (in) "Crystal input or Direct Clock input", 30 A11 (out) "External Memory Address Bus", 31 A12 (out) "External Memory Address Bus", 32 A13 (out) "External Memory Address Bus", 33 A14 (out) "External Memory Address Bus", 34 nXMEMSEL (out) "External Memory Select 0", 35 nXROMSEL (out) "External Memory Select 1", 36 nXRAMSEL (out) "External Memory Select 2", 38 A15/CLKSEL (io), 62 nRD (out) "External Memory Read pulse", 64 nWR (out) "External Memory Write pulse", 67 D15/CTS (io), 68 D14/RTS (io), 69 D13/RXD (io), 70 D12/TXD (io), 71 D11/MOSI (io), 72 D10/SCK (io), 73 D9/nSSI (io), 74 D8/MISO (io), 76 D7 (io) "External Memory Data Bus", 77 D6 (io) "External Memory Data Bus", 78 D5 (io) "External Memory Data Bus", 79 D4 (io) "External Memory Data Bus", 80 D3 (io) "External Memory Data Bus", 81 D2 (io) "External Memory Data Bus", 82 D1 (io) "External Memory Data Bus", 83 D0 (io) "External Memory Data Bus", 85 nRESET (in) "Reset", 95 A18 (out) "A18: External SRAM A18", 96 A17 (out) "A17: External SRAM A17", 97 A16 (out) "A16: External SRAM A16", 98 nBEH (out) "High Byte Enable for 16-bit memories", 99 nBEL/A0 (out)
part C pins: 6 AGND (power) "USB Ground", 11 OTGVBUS (power) "USB OTG Vbus", 12 CSWITCHB (power) "Charge Pump Capacitor", 13 CSWITCHA (power) "Charge Pump Capacitor", 14 VSWITCH (power) "Booster switching output", 15 BOOSTGND (power) "Booster Ground", 16 BOOSTVCC (power) "Booster Power input: 2.7V to 3.6V", 21 AVCC (power) "USB Power", 26 GND (power) "Main Ground", 37 VCC (power) "Main VCC", 51 GND (power) "Main Ground", 63 VCC (power) "Main VCC", 75 GND (power) "Main Ground", 84 RESERVED (power) "Tie to Gnd for normal operation.", 88 VCC (power) "Main VCC", 100 GND (power) "Main Ground"

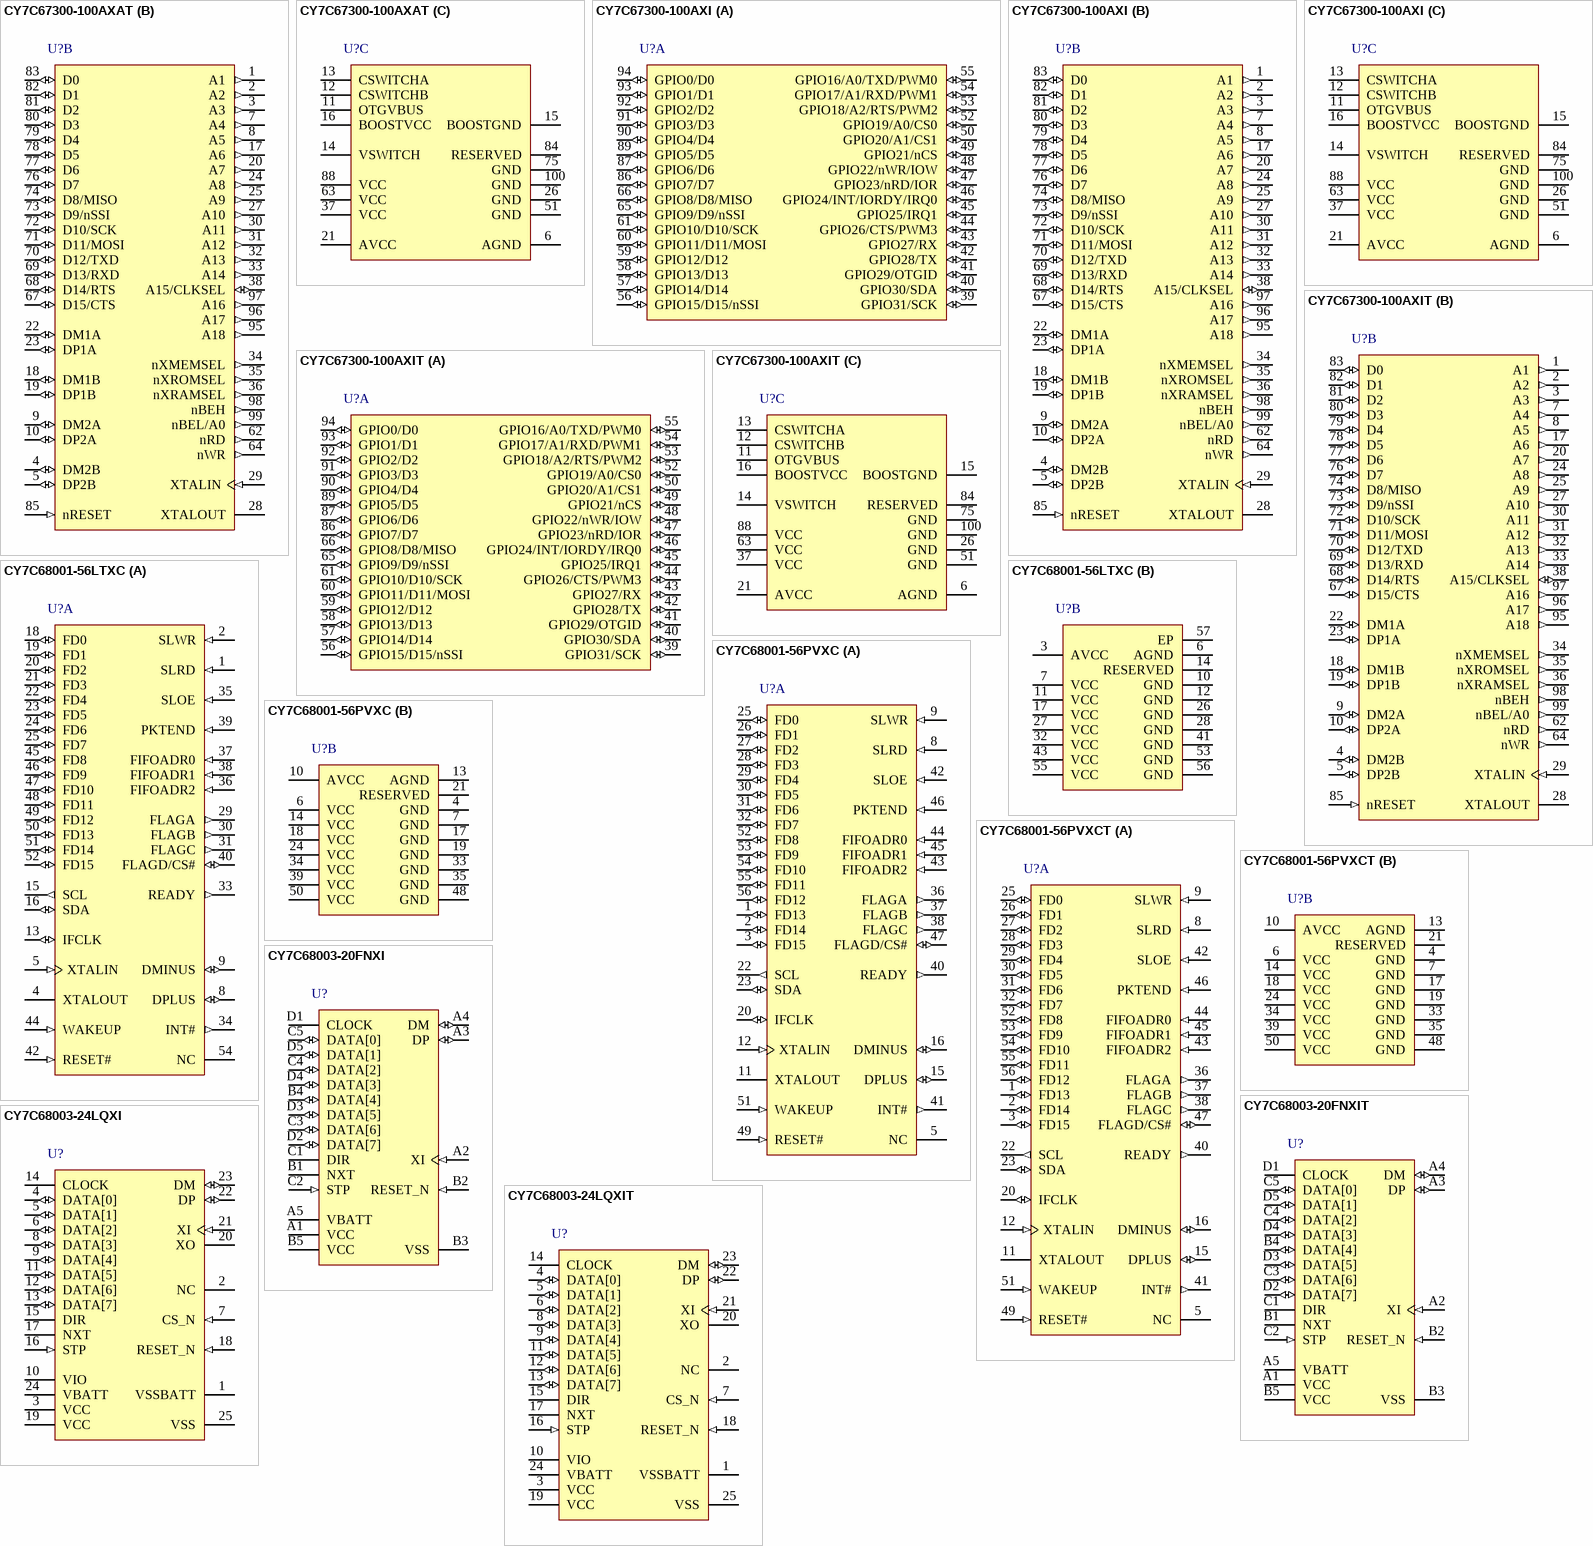
[diagram p8: symbols CY7C67300-100AXAT to CY7C68003-24LQXIT]

## CY7C67300-100AXAT
designator U?
EZ-Host(TM) Programmable Embedded USB Host and Peripheral Controller with Automotive AEC Grade Support, 16 KB, 32 I/Os, 2.7 to 3.6 V, -40 to 85 degC, 100-Pin TQFP (AX100), Tape and Reel; Manufacturer: Cypress; PartNumber: CY7C67300-100AXAT; CPU Core: CY16; Max. Operating Voltage (V): 3.6; Memory Architecture: ROM/RAM; Memory Size (KB): 16; Min. Operating Voltage (V): 2.7; No. of I/Os: 32; DatasheetVersion: Rev. *M; PackageVersion: Rev. *D, 12/2009; PackageReference: AX100; PackageDescription: 100-Pin Thin Plastic Quad Flat pack, Body 14 x14 mm, Pitch 0.5 mm; Supplier 1: Digi-Key; Supplier Part Number 1: CY7C67300-100AXAT-ND; Supplier 2: Mouser; Supplier Part Number 2: 727-CY7C67300100AXAT; Max. Operating Temp. (degreesC): 85; Min. Operating Temp. (degreesC): -40; Packing: Tape and Reel; RoHS: Pb-Free; Mounting Technology: Surface Mount; Code_JEDEC: MS-026; ComponentLink1Description: Manufacturer URL; ComponentLink1URL: http://www.cypress.com/; ComponentLink2Description: Datasheet; ComponentLink2URL: http://www.cypress.com/?docID=45285; ComponentLink3Description: Package Specification; ComponentLink3URL: http://www.cypress.com/?docID=45180
footprint CYP-AX100_N (QFN, 100-Leads, Body 14x14mm, Pitch 0.5mm, IPC Medium Density)
footprint CYP-AX100_L (QFN, 100-Leads, Body 14x14mm, Pitch 0.5mm, IPC High Density)
footprint CYP-AX100_M (QFN, 100-Leads, Body 14x14mm, Pitch 0.5mm, IPC Low Density)
part A pins: 39 GPIO31/SCK (io), 40 GPIO30/SDA (io), 41 GPIO29/OTGID (io), 42 GPIO28/TX (io), 43 GPIO27/RX (io), 44 GPIO26/CTS/PWM3 (io), 45 GPIO25/IRQ1 (io), 46 GPIO24/INT/IORDY/IRQ0 (io), 47 GPIO23/nRD/IOR (io), 48 GPIO22/nWR/IOW (io), 49 GPIO21/nCS (io), 50 GPIO20/A1/CS1 (io), 52 GPIO19/A0/CS0 (io), 53 GPIO18/A2/RTS/PWM2 (io), 54 GPIO17/A1/RXD/PWM1 (io), 55 GPIO16/A0/TXD/PWM0 (io), 56 GPIO15/D15/nSSI (io), 57 GPIO14/D14 (io), 58 GPIO13/D13 (io), 59 GPIO12/D12 (io), 60 GPIO11/D11/MOSI (io), 61 GPIO10/D10/SCK (io), 65 GPIO9/D9/nSSI (io), 66 GPIO8/D8/MISO (io), 86 GPIO7/D7 (io), 87 GPIO6/D6 (io), 89 GPIO5/D5 (io), 90 GPIO4/D4 (io), 91 GPIO3/D3 (io), 92 GPIO2/D2 (io), 93 GPIO1/D1 (io), 94 GPIO0/D0 (io)
part B pins: 1 A1 (out) "External Memory Address Bus", 2 A2 (out) "External Memory Address Bus", 3 A3 (out) "External Memory Address Bus", 4 DM2B (io) "USB Port 2B D-", 5 DP2B (io) "USB Port 2B D+", 7 A4 (out) "External Memory Address Bus", 8 A5 (out) "External Memory Address Bus", 9 DM2A (io) "USB Port 2A D-", 10 DP2A (io) "USB Port 2A D+", 17 A6 (out) "External Memory Address Bus", 18 DM1B (io) "USB Port 1B D-", 19 DP1B (io) "USB Port 1B D+", 20 A7 (out) "External Memory Address Bus", 22 DM1A (io) "USB Port 1A D-", 23 DP1A (io) "USB Port 1A D+", 24 A8 (out) "External Memory Address Bus", 25 A9 (out) "External Memory Address Bus", 27 A10 (out) "External Memory Address Bus", 28 XTALOUT "Crystal output. Leave floating if direct clock source is used.", 29 XTALIN (in) "Crystal input or Direct Clock input", 30 A11 (out) "External Memory Address Bus", 31 A12 (out) "External Memory Address Bus", 32 A13 (out) "External Memory Address Bus", 33 A14 (out) "External Memory Address Bus", 34 nXMEMSEL (out) "External Memory Select 0", 35 nXROMSEL (out) "External Memory Select 1", 36 nXRAMSEL (out) "External Memory Select 2", 38 A15/CLKSEL (io), 62 nRD (out) "External Memory Read pulse", 64 nWR (out) "External Memory Write pulse", 67 D15/CTS (io), 68 D14/RTS (io), 69 D13/RXD (io), 70 D12/TXD (io), 71 D11/MOSI (io), 72 D10/SCK (io), 73 D9/nSSI (io), 74 D8/MISO (io), 76 D7 (io) "External Memory Data Bus", 77 D6 (io) "External Memory Data Bus", 78 D5 (io) "External Memory Data Bus", 79 D4 (io) "External Memory Data Bus", 80 D3 (io) "External Memory Data Bus", 81 D2 (io) "External Memory Data Bus", 82 D1 (io) "External Memory Data Bus", 83 D0 (io) "External Memory Data Bus", 85 nRESET (in) "Reset", 95 A18 (out) "A18: External SRAM A18", 96 A17 (out) "A17: External SRAM A17", 97 A16 (out) "A16: External SRAM A16", 98 nBEH (out) "High Byte Enable for 16-bit memories", 99 nBEL/A0 (out)
part C pins: 6 AGND (power) "USB Ground", 11 OTGVBUS (power) "USB OTG Vbus", 12 CSWITCHB (power) "Charge Pump Capacitor", 13 CSWITCHA (power) "Charge Pump Capacitor", 14 VSWITCH (power) "Booster switching output", 15 BOOSTGND (power) "Booster Ground", 16 BOOSTVCC (power) "Booster Power input: 2.7V to 3.6V", 21 AVCC (power) "USB Power", 26 GND (power) "Main Ground", 37 VCC (power) "Main VCC", 51 GND (power) "Main Ground", 63 VCC (power) "Main VCC", 75 GND (power) "Main Ground", 84 RESERVED (power) "Tie to Gnd for normal operation.", 88 VCC (power) "Main VCC", 100 GND (power) "Main Ground"